# EAGLE library part LMK01000 (library NewSDR)
National 1.6 GHz High Performance Clodk Buffer, Divider, and Distributor
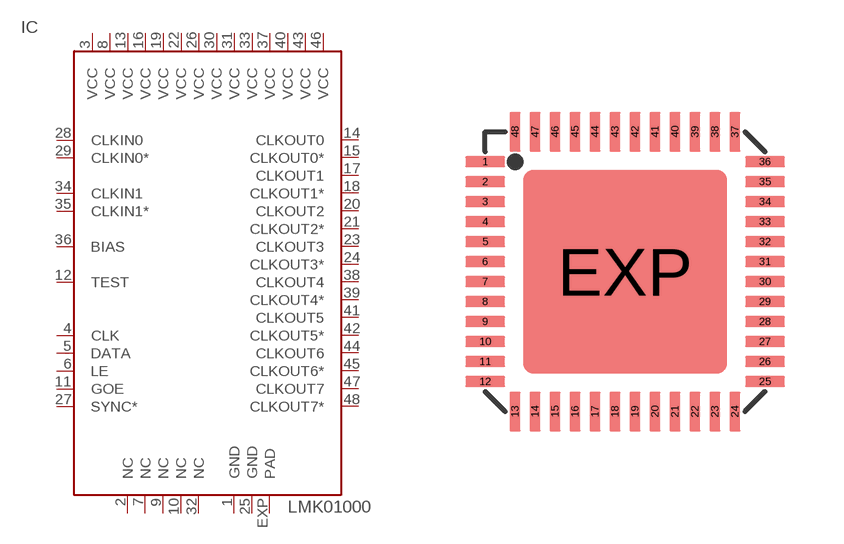
[diagram p149: symbol with the pads of LFCSP48; footprint LFCSP48]

Designator prefix IC

## LMK01000  [LFCSP48]
1  GND  pwr
2  NC  nc
3  VCC  pwr
4  CLK  in
5  DATA  in
6  LE  in
7  NC  nc
8  VCC  pwr
9  NC  nc
10  NC  nc
11  GOE  in
12  TEST  out
13  VCC  pwr
14  CLKOUT0  out
15  CLKOUT0*  out
16  VCC  pwr
17  CLKOUT1  out
18  CLKOUT1*  out
19  VCC  pwr
20  CLKOUT2  out
21  CLKOUT2*  out
22  VCC  pwr
23  CLKOUT3  out
24  CLKOUT3*  out
25  GND  pwr
26  VCC  pwr
27  SYNC*  in
28  CLKIN0  in
29  CLKIN0*  in
30  VCC  pwr
31  VCC  pwr
32  NC  nc
33  VCC  pwr
34  CLKIN1  in
35  CLKIN1*  in
36  BIAS  in
37  VCC  pwr
38  CLKOUT4  out
39  CLKOUT4*  out
40  VCC  pwr
41  CLKOUT5  out
42  CLKOUT5*  out
43  VCC  pwr
44  CLKOUT6  out
45  CLKOUT6*  out
46  VCC  pwr
47  CLKOUT7  out
48  CLKOUT7*  out
EXP  PAD  pwr

## Footprint LFCSP48 (pad centres in mm)
48-Lead Lead Frame Chip Scale Package 7 mm × 7 mm (CP-48) Source: www.analog.com
smd 1 x 0.28: 1 -3.5,2.75; 2 -3.5,2.25; 3 -3.5,1.75; 4 -3.5,1.25; 5 -3.5,0.75; 6 -3.5,0.25; 7 -3.5,-0.25; 8 -3.5,-0.75; 9 -3.5,-1.25; 10 -3.5,-1.75; 11 -3.5,-2.25; 12 -3.5,-2.75; 25 3.5,-2.75; 26 3.5,-2.25; 27 3.5,-1.75; 28 3.5,-1.25; 29 3.5,-0.75; 30 3.5,-0.25; 31 3.5,0.25; 32 3.5,0.75; 33 3.5,1.25; 34 3.5,1.75; 35 3.5,2.25; 36 3.5,2.75
smd 0.28 x 1: 13 -2.75,-3.5; 14 -2.25,-3.5; 15 -1.75,-3.5; 16 -1.25,-3.5; 17 -0.75,-3.5; 18 -0.25,-3.5; 19 0.25,-3.5; 20 0.75,-3.5; 21 1.25,-3.5; 22 1.75,-3.5; 23 2.25,-3.5; 24 2.75,-3.5; 37 2.75,3.5; 38 2.25,3.5; 39 1.75,3.5; 40 1.25,3.5; 41 0.75,3.5; 42 0.25,3.5; 43 -0.25,3.5; 44 -0.75,3.5; 45 -1.25,3.5; 46 -1.75,3.5; 47 -2.25,3.5; 48 -2.75,3.5
smd 5.1 x 5.1: EXP 0,0